# Altium footprint library FC.PcbLib: 20 footprints (part 2 of 2)
Each footprint in its own frame and in the unit in brackets; x right, y up, seen from the top. Pads: shape width x height; smd on the part's side, far side on the other; paste and mask are expansions set on the pad; w line width, h text height; cw(c..) or ccw(c..) is an arc to the next point about the centre after c.
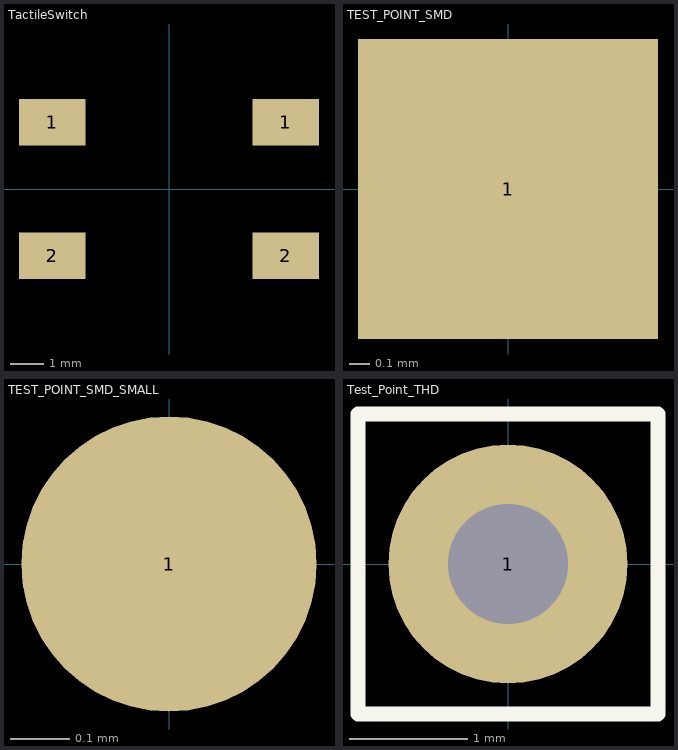
[diagram p1: the footprints below, top view; thin cyan lines are the x and y axes]

## TactileSwitch [mm]
pads (4):
  rect 2x1.4 smd: 1(-3.5,2) 1(3.5,2) 2(-3.5,-2) 2(3.5,-2)

## TEST_POINT_SMD [mm]
pads (1):
  rect 1.5x1.5 smd: 1(0,0)

## TEST_POINT_SMD_SMALL [mm]
pads (1):
  round 0.5 smd: 1(0,0)

## Test_Point_THD [mil] "Test Point"
pads (1):
  round 80 hole 40: 1(0,0)
Top Overlay:
  lines w5: -50.2,-50.2 -50.2,50.2 50.2,50.2 50.2,-50.2 -50.2,-50.2